# EAGLE library part TCA0372 (library mike-temp)
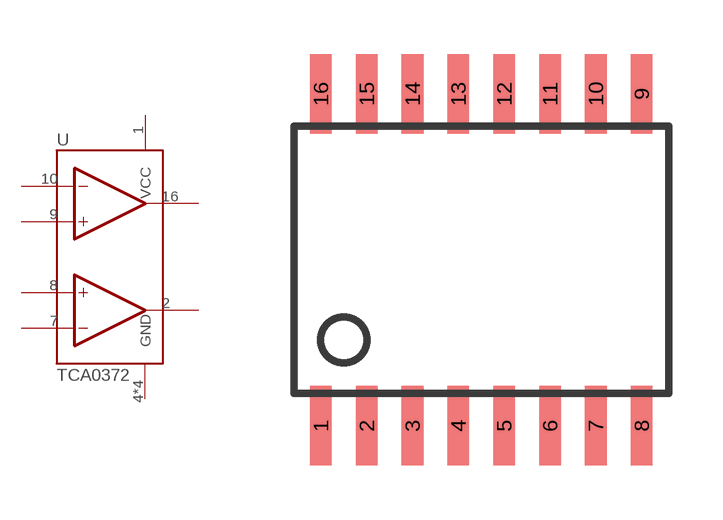
[diagram p50: symbol with the pads of SO16W; footprint SO16W]

Designator prefix U

## TCA0372  [SO16W]
1  VCC  pwr
2  OUTB  out
4  GND  pwr
5  GND  pwr
7  -INB  in
8  +INB  in
9  +INA  in
10  -INA  in
12  GND  pwr
13  GND  pwr
16  OUTA  out

## Footprint SO16W (pad centres in mm)
smd 0.6 x 2.2: 1 -4.445,-4.6; 2 -3.175,-4.6; 3 -1.905,-4.6; 4 -0.635,-4.6; 5 0.635,-4.6; 6 1.905,-4.6; 7 3.175,-4.6; 8 4.445,-4.6; 9 4.445,4.6; 10 3.175,4.6; 11 1.905,4.6; 12 0.635,4.6; 13 -0.635,4.6; 14 -1.905,4.6; 15 -3.175,4.6; 16 -4.445,4.6